# EAGLE library part DS75453 (library dec-con)
Quad 2-input OR gate, open collector output
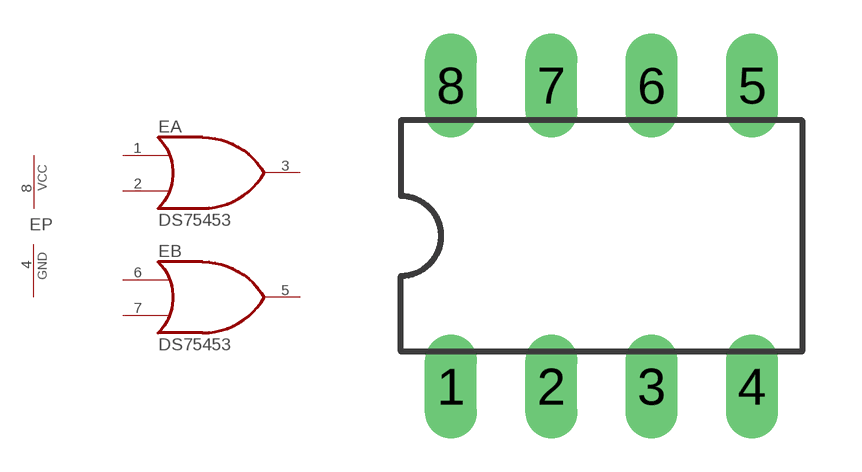
[diagram p78: symbol with the pads of DIL08; footprint DIL08]

Designator prefix E; gates P=PWRN A=75453 B=75453

## DS75453N  [DIL08]
1  A:I0  in
2  A:I1  in
3  A:O  oc
4  P:GND  pwr
5  B:O  oc
6  B:I0  in
7  B:I1  in
8  P:VCC  pwr

## Footprint DIL08 (pad centres in mm)
Dual In Line Package
drill 0.813 long: 1 -3.81,-3.81; 2 -1.27,-3.81; 3 1.27,-3.81; 4 3.81,-3.81; 5 3.81,3.81; 6 1.27,3.81; 7 -1.27,3.81; 8 -3.81,3.81